# Altium integrated library Capacitor - Aluminium TH.IntLib: 4591 symbols (part 3 of 68)
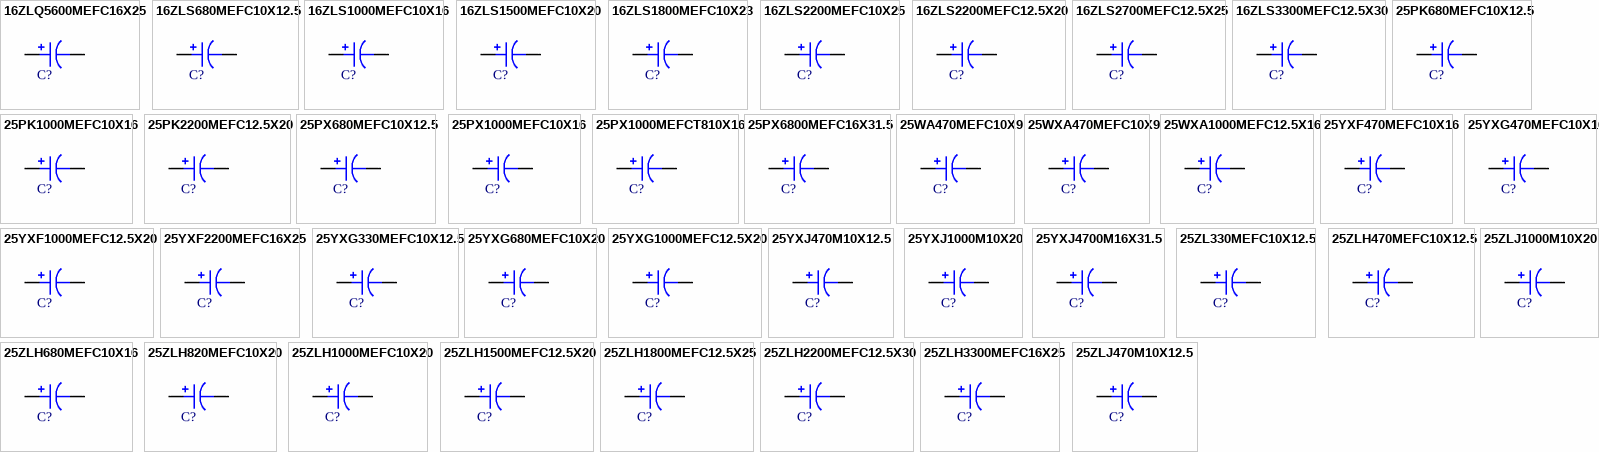
[diagram p116: symbols 16ZLQ5600MEFC16X25 to 25ZLJ1000M10X20]

## 25PX6800MEFC16X31.5
designator C?, comment 6800uF  (value not drawn)
CAP ALUM 6800UF 20% 25V RADIAL; Part Number: 25PX6800MEFC16X31.5; Manufacturer: Rubycon; TemperatureRange: -55C ~ 105C; Type: Polar; Ripple Current: 1.91A; Value: 6800uF; PartId: 27157; Supplier 1: Digi-Key; Supplier Part Number 1: 1189-1706-ND; ComponentLink1Description: Datasheet; ComponentLink1URL: http://www.rubycon.co.jp/en/catalog/e_pdfs/aluminum/e_px.pdf; ComponentLink2Description: Digi-Key Listing; ComponentLink2URL: https://www.digikey.com/product-detail/en/rubycon/25PX6800MEFC16X31.5/1189-1706-ND/3621620; Tolerance: 20%; Voltage: 25V; Price: 1.87; Device Package: Radial, Can, 16mm
footprint CAP AL TH D16 L7.5 H33.5
pins: 1, 2

## 25WA470MEFC10X9
designator C?, comment 470uF  (value not drawn)
CAP ALUM 470UF 20% 25V RADIAL; Part Number: 25WA470MEFC10X9; Manufacturer: Rubycon; TemperatureRange: -40C ~ 85C; Ripple Current: 460mA; Value: 470uF; PartId: 24478; Supplier 1: Digi-Key; Supplier Part Number 1: 1189-2231-ND; ComponentLink1Description: Datasheet; ComponentLink1URL: http://www.rubycon.co.jp/en/catalog/e_pdfs/aluminum/e_wa.pdf; ComponentLink2Description: Digi-Key Listing; ComponentLink2URL: https://www.digikey.com/product-detail/en/rubycon/25WA470MEFC10X9/1189-2231-ND/3563512; Tolerance: 20%; Voltage: 25V; Price: 0.66; Device Package: Radial, Can, 10mm
footprint CAP AL TH D10 L5 H12.5
pins: 1, 2

## 25WXA470MEFC10X9
designator C?, comment 470uF  (value not drawn)
CAP ALUM 470UF 20% 25V RADIAL; Part Number: 25WXA470MEFC10X9; Manufacturer: Rubycon; TemperatureRange: -55C ~ 105C; Type: Polar; Ripple Current: 370mA; Value: 470uF; PartId: 24467; Supplier 1: Digi-Key; Supplier Part Number 1: 1189-2233-ND; ComponentLink1Description: Datasheet; ComponentLink1URL: http://www.rubycon.co.jp/en/catalog/e_pdfs/aluminum/e_wxa.pdf; ComponentLink2Description: Digi-Key Listing; ComponentLink2URL: https://www.digikey.com/product-detail/en/rubycon/25WXA470MEFC10X9/1189-2233-ND/3563526; Tolerance: 20%; Voltage: 25V; Price: 0.55; Device Package: Radial, Can, 10mm
footprint CAP AL TH D10 L5 H12.5
pins: 1, 2

## 25WXA1000MEFC12.5X16
designator C?, comment 1000uF  (value not drawn)
CAP ALUM 1000UF 20% 25V RADIAL; Part Number: 25WXA1000MEFC12.5X16; Manufacturer: Rubycon; TemperatureRange: -55C ~ 105C; Type: Polar; Ripple Current: 670mA; Value: 1000uF; PartId: 22801; Supplier 1: Digi-Key; Supplier Part Number 1: 1189-2232-ND; ComponentLink1Description: Datasheet; ComponentLink1URL: http://www.rubycon.co.jp/en/catalog/e_pdfs/aluminum/e_wxa.pdf; ComponentLink2Description: Digi-Key Listing; ComponentLink2URL: https://www.digikey.com/product-detail/en/rubycon/25WXA1000MEFC12.5X16/1189-2232-ND/3563953; Tolerance: 20%; Voltage: 25V; Price: 0; Device Package: Radial, Can, 12.5mm
footprint CAP AL TH D12.5 L5 H17.5
pins: 1, 2

## 25YXF470MEFC10X16
designator C?, comment 470uF  (value not drawn)
CAP ALUM 470UF 20% 25V RADIAL; Part Number: 25YXF470MEFC10X16; Manufacturer: Rubycon; TemperatureRange: -40C ~ 105C; Type: Polar; Ripple Current: 562.5mA; Impedance: 120 mOhm; Value: 470uF; PartId: 25162; Supplier 1: Digi-Key; Supplier Part Number 1: 1189-1870-ND; ComponentLink1Description: Datasheet; ComponentLink1URL: http://www.rubycon.co.jp/en/catalog/e_pdfs/aluminum/e_yxf.pdf; ComponentLink2Description: Digi-Key Listing; ComponentLink2URL: https://www.digikey.com/product-detail/en/rubycon/25YXF470MEFC10X16/1189-1870-ND/3563688; Tolerance: 20%; Voltage: 25V; Price: 0.44; Device Package: Radial, Can, 10mm
footprint CAP AL TH D10 L5 H17.5
pins: 1, 2

## 25YXF1000MEFC12.5X20
designator C?, comment 1000uF  (value not drawn)
CAP ALUM 1000UF 20% 25V RADIAL; Part Number: 25YXF1000MEFC12.5X20; Manufacturer: Rubycon; TemperatureRange: -40C ~ 105C; Type: Polar; Ripple Current: 975mA; Impedance: 62 mOhm; Value: 1000uF; PartId: 23230; Supplier 1: Digi-Key; Supplier Part Number 1: 1189-1902-ND; ComponentLink1Description: Datasheet; ComponentLink1URL: http://www.rubycon.co.jp/en/catalog/e_pdfs/aluminum/e_yxf.pdf; ComponentLink2Description: Digi-Key Listing; ComponentLink2URL: https://www.digikey.com/product-detail/en/rubycon/25YXF1000MEFC12.5X20/1189-1902-ND/3564028; Tolerance: 20%; Voltage: 25V; Price: 0.67; Device Package: Radial, Can, 12.5mm
footprint CAP AL TH D12.5 L5 H22
pins: 1, 2

## 25YXF2200MEFC16X25
designator C?, comment 2200uF  (value not drawn)
CAP ALUM 2200UF 20% 25V RADIAL; Part Number: 25YXF2200MEFC16X25; Manufacturer: Rubycon; TemperatureRange: -40C ~ 105C; Type: Polar; Ripple Current: 1.5A; Impedance: 34 mOhm; Value: 2200uF; PartId: 26893; Supplier 1: Digi-Key; Supplier Part Number 1: 1189-2234-ND; ComponentLink1Description: Datasheet; ComponentLink1URL: http://www.rubycon.co.jp/en/catalog/e_pdfs/aluminum/e_yxf.pdf; ComponentLink2Description: Digi-Key Listing; ComponentLink2URL: https://www.digikey.com/product-detail/en/rubycon/25YXF2200MEFC16X25/1189-2234-ND/3564458; Tolerance: 20%; Voltage: 25V; Price: 1.41; Device Package: Radial, Can, 16mm
footprint CAP AL TH D16 L7.5 H27
pins: 1, 2

## 25YXG330MEFC10X12.5
designator C?, comment 330uF  (value not drawn)
CAP ALUM 330UF 20% 25V RADIAL; Part Number: 25YXG330MEFC10X12.5; Manufacturer: Rubycon; TemperatureRange: -40C ~ 105C; Type: Polar; Ripple Current: 475.8mA @ 120Hz; Impedance: 80 mOhm; Value: 330uF; PartId: 24951; Supplier 1: Digi-Key; Supplier Part Number 1: 1189-2235-ND; ComponentLink1Description: Datasheet; ComponentLink1URL: http://www.rubycon.co.jp/en/catalog/e_pdfs/aluminum/e_yxg.pdf; ComponentLink2Description: Digi-Key Listing; ComponentLink2URL: https://www.digikey.com/product-detail/en/rubycon/25YXG330MEFC10X12.5/1189-2235-ND/3563589; Tolerance: 20%; Voltage: 25V; Price: 0.52; Device Package: Radial, Can, 10mm
footprint CAP AL TH D10 L5 H14.5
pins: 1, 2

## 25YXG470MEFC10X16
designator C?, comment 470uF  (value not drawn)
CAP ALUM 470UF 20% 25V RADIAL; Part Number: 25YXG470MEFC10X16; Manufacturer: Rubycon; TemperatureRange: -40C ~ 105C; Type: Polar; Ripple Current: 665.5mA @ 120Hz; Impedance: 60 mOhm; Value: 470uF; PartId: 25219; Supplier 1: Digi-Key; Supplier Part Number 1: 1189-1735-ND; ComponentLink1Description: Datasheet; ComponentLink1URL: http://www.rubycon.co.jp/en/catalog/e_pdfs/aluminum/e_yxg.pdf; ComponentLink2Description: Digi-Key Listing; ComponentLink2URL: https://www.digikey.com/product-detail/en/rubycon/25YXG470MEFC10X16/1189-1735-ND/3563695; Tolerance: 20%; Voltage: 25V; Price: 0.53; Device Package: Radial, Can, 10mm
footprint CAP AL TH D10 L5 H17.5
pins: 1, 2

## 25YXG680MEFC10X20
designator C?, comment 680uF  (value not drawn)
CAP ALUM 680UF 20% 25V RADIAL; Part Number: 25YXG680MEFC10X20; Manufacturer: Rubycon; TemperatureRange: -40C ~ 105C; Type: Polar; Ripple Current: 770mA @ 120Hz; Impedance: 46 mOhm; Value: 680uF; PartId: 25580; Supplier 1: Digi-Key; Supplier Part Number 1: 1189-1738-ND; ComponentLink1Description: Datasheet; ComponentLink1URL: http://www.rubycon.co.jp/en/catalog/e_pdfs/aluminum/e_yxg.pdf; ComponentLink2Description: Digi-Key Listing; ComponentLink2URL: https://www.digikey.com/product-detail/en/rubycon/25YXG680MEFC10X20/1189-1738-ND/3563790; Tolerance: 20%; Voltage: 25V; Price: 0.66; Device Package: Radial, Can, 10mm
footprint CAP AL TH D10 L5 H22
pins: 1, 2

## 25YXG1000MEFC12.5X20
designator C?, comment 1000uF  (value not drawn)
CAP ALUM 1000UF 20% 25V RADIAL; Part Number: 25YXG1000MEFC12.5X20; Manufacturer: Rubycon; TemperatureRange: -40C ~ 105C; Type: Polar; Ripple Current: 1.14A @ 120Hz; Impedance: 35 mOhm; Value: 1000uF; PartId: 23379; Supplier 1: Digi-Key; Supplier Part Number 1: 1189-1231-ND; ComponentLink1Description: Datasheet; ComponentLink1URL: http://www.rubycon.co.jp/en/catalog/e_pdfs/aluminum/e_yxg.pdf; ComponentLink2Description: Digi-Key Listing; ComponentLink2URL: https://www.digikey.com/product-detail/en/rubycon/25YXG1000MEFC12.5X20/1189-1231-ND/3134187; Tolerance: 20%; Voltage: 25V; Price: 0.92; Device Package: Radial, Can, 12.5mm
footprint CAP AL TH D12.5 L5 H22
pins: 1, 2

## 25YXJ470M10X12.5
designator C?, comment 470uF  (value not drawn)
CAP ALUM 470UF 20% 25V RADIAL; Part Number: 25YXJ470M10X12.5; Manufacturer: Rubycon; TemperatureRange: -40C ~ 105C; Type: Polar; Ripple Current: 865mA; Impedance: 80 mOhm; Value: 470uF; PartId: 24831; Supplier 1: Digi-Key; Supplier Part Number 1: 1189-2238-ND; ComponentLink1Description: Datasheet; ComponentLink1URL: http://www.rubycon.co.jp/en/catalog/e_pdfs/aluminum/e_yxj.pdf; ComponentLink2Description: Digi-Key Listing; ComponentLink2URL: https://www.digikey.com/product-detail/en/rubycon/25YXJ470M10X12.5/1189-2238-ND/3563596; Tolerance: 20%; Voltage: 25V; Price: 0.46; Device Package: Radial, Can, 10mm
footprint CAP AL TH D10 L5 H14.5
pins: 1, 2

## 25YXJ1000M10X20
designator C?, comment 1000uF  (value not drawn)
CAP ALUM 1000UF 20% 25V RADIAL; Part Number: 25YXJ1000M10X20; Manufacturer: Rubycon; TemperatureRange: -40C ~ 105C; Type: Polar; Ripple Current: 1.4A; Impedance: 46 mOhm; Value: 1000uF; PartId: 25851; Supplier 1: Digi-Key; Supplier Part Number 1: 1189-1241-ND; ComponentLink1Description: Datasheet; ComponentLink1URL: http://www.rubycon.co.jp/en/catalog/e_pdfs/aluminum/e_yxj.pdf; ComponentLink2Description: Digi-Key Listing; ComponentLink2URL: https://www.digikey.com/product-detail/en/rubycon/25YXJ1000M10X20/1189-1241-ND/3134197; Tolerance: 20%; Voltage: 25V; Price: 0.55; Device Package: Radial, Can, 10mm
footprint CAP AL TH D10 L5 H22
pins: 1, 2

## 25YXJ4700M16X31.5
designator C?, comment 4700uF  (value not drawn)
CAP ALUM 4700UF 20% 25V RADIAL; Part Number: 25YXJ4700M16X31.5; Manufacturer: Rubycon; TemperatureRange: -40C ~ 105C; Type: Polar; Ripple Current: 3.45A; Impedance: 19 mOhm; Value: 4700uF; PartId: 27150; Supplier 1: Digi-Key; Supplier Part Number 1: 25YXJ4700M16X31.5-ND; ComponentLink1Description: Datasheet; ComponentLink1URL: http://www.rubycon.co.jp/en/catalog/e_pdfs/aluminum/e_yxj.pdf; ComponentLink2Description: Digi-Key Listing; ComponentLink2URL: https://www.digikey.com/product-detail/en/rubycon/25YXJ4700M16X31.5/25YXJ4700M16X31.5-ND/3564542; Tolerance: 20%; Voltage: 25V; Price: 1.84; Device Package: Radial, Can, 16mm
footprint CAP AL TH D16 L7.5 H33.5
pins: 1, 2

## 25ZL330MEFC10X12.5
designator C?, comment 330uF  (value not drawn)
CAP ALUM 330UF 20% 25V RADIAL; Part Number: 25ZL330MEFC10X12.5; Manufacturer: Rubycon; TemperatureRange: -40C ~ 105C; Type: Polar; Ripple Current: 567mA; Impedance: 53 mOhm; Value: 330uF; PartId: 24927; Supplier 1: Digi-Key; Supplier Part Number 1: 1189-1739-ND; ComponentLink1Description: Datasheet; ComponentLink1URL: http://www.rubycon.co.jp/en/catalog/e_pdfs/aluminum/e_zl.pdf; ComponentLink2Description: Digi-Key Listing; ComponentLink2URL: https://www.digikey.com/product-detail/en/rubycon/25ZL330MEFC10X12.5/1189-1739-ND/3563603; Tolerance: 20%; Voltage: 25V; Price: 0.5; Device Package: Radial, Can, 10mm
footprint CAP AL TH D10 L5 H14.5
pins: 1, 2

## 25ZLH470MEFC10X12.5
designator C?, comment 470uF  (value not drawn)
CAP ALUM 470UF 20% 25V RADIAL; Part Number: 25ZLH470MEFC10X12.5; Manufacturer: Rubycon; TemperatureRange: -40C ~ 105C; Type: Polar; Ripple Current: 731.5mA; Impedance: 39 mOhm; Value: 470uF; PartId: 24756; Supplier 1: Digi-Key; Supplier Part Number 1: 1189-1869-ND; ComponentLink1Description: Datasheet; ComponentLink1URL: http://www.rubycon.co.jp/en/catalog/e_pdfs/aluminum/e_zlh.pdf; ComponentLink2Description: Digi-Key Listing; ComponentLink2URL: https://www.digikey.com/product-detail/en/rubycon/25ZLH470MEFC10X12.5/1189-1869-ND/3563614; Tolerance: 20%; Voltage: 25V; Price: 0.43; Device Package: Radial, Can, 10mm
footprint CAP AL TH D10 L5 H14.5
pins: 1, 2

## 25ZLH680MEFC10X16
designator C?, comment 680uF  (value not drawn)
CAP ALUM 680UF 20% 25V RADIAL; Part Number: 25ZLH680MEFC10X16; Manufacturer: Rubycon; TemperatureRange: -40C ~ 105C; Type: Polar; Ripple Current: 968mA; Impedance: 28 mOhm; Value: 680uF; PartId: 25227; Supplier 1: Digi-Key; Supplier Part Number 1: 1189-1855-ND; ComponentLink1Description: Datasheet; ComponentLink1URL: http://www.rubycon.co.jp/en/catalog/e_pdfs/aluminum/e_zlh.pdf; ComponentLink2Description: Digi-Key Listing; ComponentLink2URL: https://www.digikey.com/product-detail/en/rubycon/25ZLH680MEFC10X16/1189-1855-ND/3563722; Tolerance: 20%; Voltage: 25V; Price: 0.55; Device Package: Radial, Can, 10mm
footprint CAP AL TH D10 L5 H17.5
pins: 1, 2

## 25ZLH820MEFC10X20
designator C?, comment 820uF  (value not drawn)
CAP ALUM 820UF 20% 25V RADIAL; Part Number: 25ZLH820MEFC10X20; Manufacturer: Rubycon; TemperatureRange: -40C ~ 105C; Type: Polar; Ripple Current: 1.176A; Impedance: 20 mOhm; Value: 820uF; PartId: 25878; Supplier 1: Digi-Key; Supplier Part Number 1: 1189-2915-ND; ComponentLink1Description: Datasheet; ComponentLink1URL: http://www.rubycon.co.jp/en/catalog/e_pdfs/aluminum/e_zlh.pdf; ComponentLink2Description: Digi-Key Listing; ComponentLink2URL: https://www.digikey.com/product-detail/en/rubycon/25ZLH820MEFC10X20/1189-2915-ND/3563817; Tolerance: 20%; Voltage: 25V; Price: 0.64; Device Package: Radial, Can, 10mm
footprint CAP AL TH D10 L5 H22
pins: 1, 2

## 25ZLH1000MEFC10X20
designator C?, comment 1000uF  (value not drawn)
CAP ALUM 1000UF 20% 25V RADIAL; Part Number: 25ZLH1000MEFC10X20; Manufacturer: Rubycon; TemperatureRange: -40C ~ 105C; Type: Polar; Value: 1000uF; PartId: 25890; Supplier 1: Digi-Key; Supplier Part Number 1: 1189-1242-ND; ComponentLink1Description: Datasheet; ComponentLink1URL: http://www.rubycon.co.jp/en/catalog/e_pdfs/aluminum/e_zlh.pdf; ComponentLink2Description: Digi-Key Listing; ComponentLink2URL: https://www.digikey.com/product-detail/en/rubycon/25ZLH1000MEFC10X20/1189-1242-ND/3134198; Tolerance: 20%; Voltage: 25V; Price: 0.65; Device Package: Radial, Can, 10mm
footprint CAP AL TH D10 L5 H22
pins: 1, 2

## 25ZLH1500MEFC12.5X20
designator C?, comment 1500uF  (value not drawn)
CAP ALUM 1500UF 20% 25V RADIAL; Part Number: 25ZLH1500MEFC12.5X20; Manufacturer: Rubycon; TemperatureRange: -40C ~ 105C; Type: Polar; Ripple Current: 1.488A; Impedance: 17 mOhm; Value: 1500uF; PartId: 23438; Supplier 1: Digi-Key; Supplier Part Number 1: 1189-2241-ND; ComponentLink1Description: Datasheet; ComponentLink1URL: http://www.rubycon.co.jp/en/catalog/e_pdfs/aluminum/e_zlh.pdf; ComponentLink2Description: Digi-Key Listing; ComponentLink2URL: https://www.digikey.com/product-detail/en/rubycon/25ZLH1500MEFC12.5X20/1189-2241-ND/3564066; Tolerance: 20%; Voltage: 25V; Price: 1.03; Device Package: Radial, Can, 12.5mm
footprint CAP AL TH D12.5 L5 H22
pins: 1, 2

## 25ZLH1800MEFC12.5X25
designator C?, comment 1800uF  (value not drawn)
CAP ALUM 1800UF 20% 25V RADIAL; Part Number: 25ZLH1800MEFC12.5X25; Manufacturer: Rubycon; TemperatureRange: -40C ~ 105C; Type: Polar; Ripple Current: 1.74A; Impedance: 15 mOhm; Value: 1800uF; PartId: 24003; Supplier 1: Digi-Key; Supplier Part Number 1: 1189-2961-ND; ComponentLink1Description: Datasheet; ComponentLink1URL: http://www.rubycon.co.jp/en/catalog/e_pdfs/aluminum/e_zlh.pdf; ComponentLink2Description: Digi-Key Listing; ComponentLink2URL: https://www.digikey.com/product-detail/en/rubycon/25ZLH1800MEFC12.5X25/1189-2961-ND/3564151; Tolerance: 20%; Voltage: 25V; Price: 1.05; Device Package: Radial, Can, 12.5mm
footprint CAP AL TH D12.5 L5 H27
pins: 1, 2

## 25ZLH2200MEFC12.5X30
designator C?, comment 2200uF  (value not drawn)
CAP ALUM 2200UF 20% 25V RADIAL; Part Number: 25ZLH2200MEFC12.5X30; Manufacturer: Rubycon; TemperatureRange: -40C ~ 105C; Type: Polar; Ripple Current: 2.415A; Impedance: 13 mOhm; Value: 2200uF; PartId: 24226; Supplier 1: Digi-Key; Supplier Part Number 1: 1189-1741-ND; ComponentLink1Description: Datasheet; ComponentLink1URL: http://www.rubycon.co.jp/en/catalog/e_pdfs/aluminum/e_zlh.pdf; ComponentLink2Description: Digi-Key Listing; ComponentLink2URL: https://www.digikey.com/product-detail/en/rubycon/25ZLH2200MEFC12.5X30/1189-1741-ND/3564206; Tolerance: 20%; Voltage: 25V; Price: 0.97; Device Package: Radial, Can, 12.5mm
footprint CAP AL TH D12.5 L5 H35.5
pins: 1, 2

## 25ZLH3300MEFC16X25
designator C?, comment 3300uF  (value not drawn)
CAP ALUM 3300UF 20% 25V RADIAL; Part Number: 25ZLH3300MEFC16X25; Manufacturer: Rubycon; TemperatureRange: -40C ~ 105C; Type: Polar; Ripple Current: 2.541A; Impedance: 13 mOhm; Value: 3300uF; PartId: 26914; Supplier 1: Digi-Key; Supplier Part Number 1: 1189-2964-ND; ComponentLink1Description: Datasheet; ComponentLink1URL: http://www.rubycon.co.jp/en/catalog/e_pdfs/aluminum/e_zlh.pdf; ComponentLink2Description: Digi-Key Listing; ComponentLink2URL: https://www.digikey.com/product-detail/en/rubycon/25ZLH3300MEFC16X25/1189-2964-ND/3564492; Tolerance: 20%; Voltage: 25V; Price: 1.64; Device Package: Radial, Can, 16mm
footprint CAP AL TH D16 L7.5 H27
pins: 1, 2

## 25ZLJ470M10X12.5
designator C?, comment 470uF  (value not drawn)
CAP ALUM 470UF 20% 25V RADIAL; Part Number: 25ZLJ470M10X12.5; Manufacturer: Rubycon; TemperatureRange: -40C ~ 105C; Type: Polar; Ripple Current: 935mA @ 120Hz; Impedance: 53 mOhm; Value: 470uF; PartId: 24961; Supplier 1: Digi-Key; Supplier Part Number 1: 1189-1253-ND; ComponentLink1Description: Datasheet; ComponentLink1URL: http://www.rubycon.co.jp/en/catalog/e_pdfs/aluminum/e_zlj.pdf; ComponentLink2Description: Digi-Key Listing; ComponentLink2URL: https://www.digikey.com/product-detail/en/rubycon/25ZLJ470M10X12.5/1189-1253-ND/3134209; Tolerance: 20%; Voltage: 25V; Price: 0.53; Device Package: Radial, Can, 10mm
footprint CAP AL TH D10 L5 H14.5
pins: 1, 2

## 25ZLJ1000M10X20
designator C?, comment 1000uF  (value not drawn)
CAP ALUM 1000UF 20% 25V RADIAL; Part Number: 25ZLJ1000M10X20; Manufacturer: Rubycon; TemperatureRange: -40C ~ 105C; Type: Polar; Ripple Current: 1.5A @ 120Hz; Impedance: 28 mOhm; Value: 1000uF; PartId: 25917; Supplier 1: Digi-Key; Supplier Part Number 1: 1189-1245-ND; ComponentLink1Description: Datasheet; ComponentLink1URL: http://www.rubycon.co.jp/en/catalog/e_pdfs/aluminum/e_zlj.pdf; ComponentLink2Description: Digi-Key Listing; ComponentLink2URL: https://www.digikey.com/product-detail/en/rubycon/25ZLJ1000M10X20/1189-1245-ND/3134201; Tolerance: 20%; Voltage: 25V; Price: 0.71; Device Package: Radial, Can, 10mm
footprint CAP AL TH D10 L5 H22
pins: 1, 2

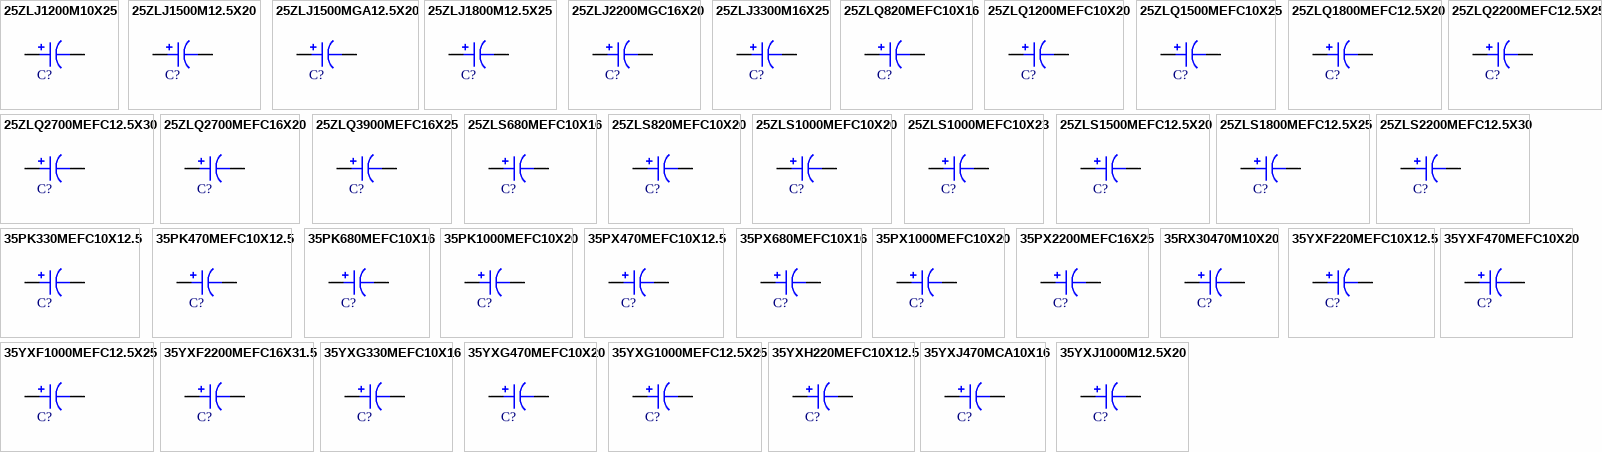
[diagram p4: symbols 25ZLJ1200M10X25 to 35YXJ1000M12.5X20]

## 25ZLJ1200M10X25
designator C?, comment 1200uF  (value not drawn)
CAP ALUM 1200UF 20% 25V RADIAL; Part Number: 25ZLJ1200M10X25; Manufacturer: Rubycon; TemperatureRange: -40C ~ 105C; Type: Polar; Ripple Current: 1.74A @ 120Hz; Impedance: 24 mOhm; Value: 1200uF; PartId: 26165; Supplier 1: Digi-Key; Supplier Part Number 1: 1189-1246-ND; ComponentLink1Description: Datasheet; ComponentLink1URL: http://www.rubycon.co.jp/en/catalog/e_pdfs/aluminum/e_zlj.pdf; ComponentLink2Description: Digi-Key Listing; ComponentLink2URL: https://www.digikey.com/product-detail/en/rubycon/25ZLJ1200M10X25/1189-1246-ND/3134202; Tolerance: 20%; Voltage: 25V; Price: 0.87; Device Package: Radial, Can, 10mm
footprint CAP AL TH D10 L5 H30
pins: 1, 2

## 25ZLJ1500M12.5X20
designator C?, comment 1500uF  (value not drawn)
CAP ALUM 1500UF 20% 25V RADIAL; Part Number: 25ZLJ1500M12.5X20; Manufacturer: Rubycon; TemperatureRange: -40C ~ 105C; Type: Polar; Ripple Current: 1.56A @ 120Hz; Impedance: 25 mOhm; Value: 1500uF; PartId: 23471; Supplier 1: Digi-Key; Supplier Part Number 1: 1189-2916-ND; ComponentLink1Description: Datasheet; ComponentLink1URL: http://www.rubycon.co.jp/en/catalog/e_pdfs/aluminum/e_zlj.pdf; ComponentLink2Description: Digi-Key Listing; ComponentLink2URL: https://www.digikey.com/product-detail/en/rubycon/25ZLJ1500M12.5X20/1189-2916-ND/3564073; Tolerance: 20%; Voltage: 25V; Price: 1.09; Device Package: Radial, Can, 12.5mm
footprint CAP AL TH D12.5 L5 H22
pins: 1, 2

## 25ZLJ1500MGA12.5X20
designator C?, comment 1500uF  (value not drawn)
CAP ALUM 1500UF 20% 25V RADIAL; Part Number: 25ZLJ1500MGA12.5X20; Manufacturer: Rubycon; TemperatureRange: -40C ~ 105C; Type: Polar; Ripple Current: 1.56A @ 120Hz; Impedance: 25 mOhm; Value: 1500uF; PartId: 23203; Supplier 1: Digi-Key; Supplier Part Number 1: 1189-1592-3-ND; ComponentLink1Description: Datasheet; ComponentLink1URL: http://www.rubycon.co.jp/en/catalog/e_pdfs/aluminum/e_zlj.pdf; ComponentLink2Description: Digi-Key Listing; ComponentLink2URL: https://www.digikey.com/product-detail/en/rubycon/25ZLJ1500MGA12.5X20/1189-1592-3-ND/3134872; Tolerance: 20%; Voltage: 25V; Price: 0.4666; Device Package: Radial, Can, 12.5mm
footprint CAP AL TH D12.5 L5 H22
pins: 1, 2

## 25ZLJ1800M12.5X25
designator C?, comment 1800uF  (value not drawn)
CAP ALUM 1800UF 20% 25V RADIAL; Part Number: 25ZLJ1800M12.5X25; Manufacturer: Rubycon; TemperatureRange: -40C ~ 105C; Type: Polar; Ripple Current: 1.92A @ 120Hz; Impedance: 19 mOhm; Value: 1800uF; PartId: 24107; Supplier 1: Digi-Key; Supplier Part Number 1: 1189-1248-ND; ComponentLink1Description: Datasheet; ComponentLink1URL: http://www.rubycon.co.jp/en/catalog/e_pdfs/aluminum/e_zlj.pdf; ComponentLink2Description: Digi-Key Listing; ComponentLink2URL: https://www.digikey.com/product-detail/en/rubycon/25ZLJ1800M12.5X25/1189-1248-ND/3134204; Tolerance: 20%; Voltage: 25V; Price: 1.35; Device Package: Radial, Can, 12.5mm
footprint CAP AL TH D12.5 L5 H27
pins: 1, 2

## 25ZLJ2200MGC16X20
designator C?, comment 2200uF  (value not drawn)
CAP ALUM 2200UF 20% 25V RADIAL; Part Number: 25ZLJ2200MGC16X20; Manufacturer: Rubycon; TemperatureRange: -40C ~ 105C; Type: Polar; Ripple Current: 2.331A @ 120Hz; Impedance: 21 mOhm; Value: 2200uF; PartId: 26391; Supplier 1: Digi-Key; Supplier Part Number 1: 1189-1593-2-ND; ComponentLink1Description: Datasheet; ComponentLink1URL: http://www.rubycon.co.jp/en/catalog/e_pdfs/aluminum/e_zlj.pdf; ComponentLink2Description: Digi-Key Listing; ComponentLink2URL: https://www.digikey.com/product-detail/en/rubycon/25ZLJ2200MGC16X20/1189-1593-2-ND/3134873; Tolerance: 20%; Voltage: 25V; Price: 0.8384; Device Package: Radial, Can, 16mm
footprint CAP AL TH D16 L7.5 H22
pins: 1, 2

## 25ZLJ3300M16X25
designator C?, comment 3300uF  (value not drawn)
CAP ALUM 3300UF 20% 25V RADIAL; Part Number: 25ZLJ3300M16X25; Manufacturer: Rubycon; TemperatureRange: -40C ~ 105C; Type: Polar; Ripple Current: 2.667A @ 120Hz; Impedance: 17 mOhm; Value: 3300uF; PartId: 26926; Supplier 1: Digi-Key; Supplier Part Number 1: 1189-1250-ND; ComponentLink1Description: Datasheet; ComponentLink1URL: http://www.rubycon.co.jp/en/catalog/e_pdfs/aluminum/e_zlj.pdf; ComponentLink2Description: Digi-Key Listing; ComponentLink2URL: https://www.digikey.com/product-detail/en/rubycon/25ZLJ3300M16X25/1189-1250-ND/3134206; Tolerance: 20%; Voltage: 25V; Price: 1.76; Device Package: Radial, Can, 16mm
footprint CAP AL TH D16 L7.5 H27
pins: 1, 2

## 25ZLQ820MEFC10X16
designator C?, comment 820uF  (value not drawn)
CAP ALUM 820UF 20% 25V T/H; Part Number: 25ZLQ820MEFC10X16; Manufacturer: Rubycon; TemperatureRange: -40C ~ 105C; Type: Polar; Ripple Current: 1.158A @ 120Hz; Impedance: 25 mOhm; Value: 820uF; PartId: 25448; Supplier 1: Digi-Key; Supplier Part Number 1: 1189-3647-ND; ComponentLink1Description: Datasheet; ComponentLink1URL: http://www.rubycon.co.jp/en/catalog/e_pdfs/aluminum/e_ZLQ.pdf; ComponentLink2Description: Digi-Key Listing; ComponentLink2URL: https://www.digikey.com/product-detail/en/rubycon/25ZLQ820MEFC10X16/1189-3647-ND/6049874; Tolerance: 20%; Voltage: 25V; Price: 0.69; Device Package: Radial, Can, 10mm
footprint CAP AL TH D10 L5 H17.5
pins: 1, 2

## 25ZLQ1200MEFC10X20
designator C?, comment 1200uF  (value not drawn)
CAP ALUM 1200UF 20% 25V T/H; Part Number: 25ZLQ1200MEFC10X20; Manufacturer: Rubycon; TemperatureRange: -40C ~ 105C; Type: Polar; Ripple Current: 1.278A @ 120Hz; Impedance: 18 mOhm; Value: 1200uF; PartId: 25920; Supplier 1: Digi-Key; Supplier Part Number 1: 1189-3648-ND; ComponentLink1Description: Datasheet; ComponentLink1URL: http://www.rubycon.co.jp/en/catalog/e_pdfs/aluminum/e_ZLQ.pdf; ComponentLink2Description: Digi-Key Listing; ComponentLink2URL: https://www.digikey.com/product-detail/en/rubycon/25ZLQ1200MEFC10X20/1189-3648-ND/6049875; Tolerance: 20%; Voltage: 25V; Price: 0.71; Device Package: Radial, Can, 10mm
footprint CAP AL TH D10 L5 H22
pins: 1, 2

## 25ZLQ1500MEFC10X25
designator C?, comment 1500uF  (value not drawn)
CAP ALUM 1500UF 20% 25V T/H; Part Number: 25ZLQ1500MEFC10X25; Manufacturer: Rubycon; TemperatureRange: -40C ~ 105C; Type: Polar; Ripple Current: 1.5A @ 120Hz; Impedance: 15 mOhm; Value: 1500uF; PartId: 26130; Supplier 1: Digi-Key; Supplier Part Number 1: 1189-3649-ND; ComponentLink1Description: Datasheet; ComponentLink1URL: http://www.rubycon.co.jp/en/catalog/e_pdfs/aluminum/e_ZLQ.pdf; ComponentLink2Description: Digi-Key Listing; ComponentLink2URL: https://www.digikey.com/product-detail/en/rubycon/25ZLQ1500MEFC10X25/1189-3649-ND/6050008; Tolerance: 20%; Voltage: 25V; Price: 0.8; Device Package: Radial, Can, 10mm
footprint CAP AL TH D10 L5 H30
pins: 1, 2

## 25ZLQ1800MEFC12.5X20
designator C?, comment 1800uF  (value not drawn)
CAP ALUM 1800UF 20% 25V T/H; Part Number: 25ZLQ1800MEFC12.5X20; Manufacturer: Rubycon; TemperatureRange: -40C ~ 105C; Type: Polar; Ripple Current: 1.614A @ 120Hz; Impedance: 16 mOhm; Value: 1800uF; PartId: 23439; Supplier 1: Digi-Key; Supplier Part Number 1: 1189-3650-ND; ComponentLink1Description: Datasheet; ComponentLink1URL: http://www.rubycon.co.jp/en/catalog/e_pdfs/aluminum/e_ZLQ.pdf; ComponentLink2Description: Digi-Key Listing; ComponentLink2URL: https://www.digikey.com/product-detail/en/rubycon/25ZLQ1800MEFC12.5X20/1189-3650-ND/6050009; Tolerance: 20%; Voltage: 25V; Price: 1.03; Device Package: Radial, Can, 12.5mm
footprint CAP AL TH D12.5 L5 H22
pins: 1, 2

## 25ZLQ2200MEFC12.5X25
designator C?, comment 2200uF  (value not drawn)
CAP ALUM 2200UF 20% 25V T/H; Part Number: 25ZLQ2200MEFC12.5X25; Manufacturer: Rubycon; TemperatureRange: -40C ~ 105C; Type: Polar; Ripple Current: 2.198A @ 120Hz; Impedance: 13 mOhm; Value: 2200uF; PartId: 24004; Supplier 1: Digi-Key; Supplier Part Number 1: 1189-3651-ND; ComponentLink1Description: Datasheet; ComponentLink1URL: http://www.rubycon.co.jp/en/catalog/e_pdfs/aluminum/e_ZLQ.pdf; ComponentLink2Description: Digi-Key Listing; ComponentLink2URL: https://www.digikey.com/product-detail/en/rubycon/25ZLQ2200MEFC12.5X25/1189-3651-ND/6050010; Tolerance: 20%; Voltage: 25V; Price: 1.05; Device Package: Radial, Can, 12.5mm
footprint CAP AL TH D12.5 L5 H27
pins: 1, 2

## 25ZLQ2700MEFC12.5X30
designator C?, comment 2700uF  (value not drawn)
CAP ALUM 2700UF 20% 25V T/H; Part Number: 25ZLQ2700MEFC12.5X30; Manufacturer: Rubycon; TemperatureRange: -40C ~ 105C; Type: Polar; Ripple Current: 2.576A @ 120Hz; Impedance: 12 mOhm; Value: 2700uF; PartId: 24324; Supplier 1: Digi-Key; Supplier Part Number 1: 1189-3652-ND; ComponentLink1Description: Datasheet; ComponentLink1URL: http://www.rubycon.co.jp/en/catalog/e_pdfs/aluminum/e_ZLQ.pdf; ComponentLink2Description: Digi-Key Listing; ComponentLink2URL: https://www.digikey.com/product-detail/en/rubycon/25ZLQ2700MEFC12.5X30/1189-3652-ND/6050011; Tolerance: 20%; Voltage: 25V; Price: 1.27; Device Package: Radial, Can, 12.5mm
footprint CAP AL TH D12.5 L5 H35.5
pins: 1, 2

## 25ZLQ2700MEFC16X20
designator C?, comment 2700uF  (value not drawn)
CAP ALUM 2700UF 20% 25V T/H; Part Number: 25ZLQ2700MEFC16X20; Manufacturer: Rubycon; TemperatureRange: -40C ~ 105C; Type: Polar; Ripple Current: 2.45A @ 120Hz; Impedance: 14 mOhm; Value: 2700uF; PartId: 26442; Supplier 1: Digi-Key; Supplier Part Number 1: 1189-3653-ND; ComponentLink1Description: Datasheet; ComponentLink1URL: http://www.rubycon.co.jp/en/catalog/e_pdfs/aluminum/e_ZLQ.pdf; ComponentLink2Description: Digi-Key Listing; ComponentLink2URL: https://www.digikey.com/product-detail/en/rubycon/25ZLQ2700MEFC16X20/1189-3653-ND/6050189; Tolerance: 20%; Voltage: 25V; Price: 1.39; Device Package: Radial, Can, 16mm
footprint CAP AL TH D16 L7.5 H22
pins: 1, 2

## 25ZLQ3900MEFC16X25
designator C?, comment 3900uF  (value not drawn)
CAP ALUM 3900UF 20% 25V T/H; Part Number: 25ZLQ3900MEFC16X25; Manufacturer: Rubycon; TemperatureRange: -40C ~ 105C; Type: Polar; Ripple Current: 2.716A @ 120Hz; Impedance: 11 mOhm; Value: 3900uF; PartId: 26917; Supplier 1: Digi-Key; Supplier Part Number 1: 1189-3655-ND; ComponentLink1Description: Datasheet; ComponentLink1URL: http://www.rubycon.co.jp/en/catalog/e_pdfs/aluminum/e_ZLQ.pdf; ComponentLink2Description: Digi-Key Listing; ComponentLink2URL: https://www.digikey.com/product-detail/en/rubycon/25ZLQ3900MEFC16X25/1189-3655-ND/6050190; Tolerance: 20%; Voltage: 25V; Price: 1.66; Device Package: Radial, Can, 16mm
footprint CAP AL TH D16 L7.5 H27
pins: 1, 2

## 25ZLS680MEFC10X16
designator C?, comment 680uF  (value not drawn)
CAP ALUM 680UF 20% 25V RADIAL; Part Number: 25ZLS680MEFC10X16; Manufacturer: Rubycon; TemperatureRange: -40C ~ 105C; Type: Polar; Ripple Current: 907.5mA; Impedance: 32 mOhm; Value: 680uF; PartId: 25315; Supplier 1: Digi-Key; Supplier Part Number 1: 1189-2586-ND; ComponentLink1Description: Datasheet; ComponentLink1URL: http://www.rubycon.co.jp/en/catalog/e_pdfs/aluminum/e_zls.pdf; ComponentLink2Description: Digi-Key Listing; ComponentLink2URL: https://www.digikey.com/product-detail/en/rubycon/25ZLS680MEFC10X16/1189-2586-ND/4977133; Tolerance: 20%; Voltage: 25V; Price: 0.65; Device Package: Radial, Can, 10mm
footprint CAP AL TH D10 L5 H17.5
pins: 1, 2

## 25ZLS820MEFC10X20
designator C?, comment 820uF  (value not drawn)
CAP ALUM 820UF 20% 25V RADIAL; Part Number: 25ZLS820MEFC10X20; Manufacturer: Rubycon; TemperatureRange: -40C ~ 105C; Type: Polar; Ripple Current: 1.176A; Impedance: 20 mOhm; Value: 820uF; PartId: 25939; Supplier 1: Digi-Key; Supplier Part Number 1: 1189-2587-ND; ComponentLink1Description: Datasheet; ComponentLink1URL: http://www.rubycon.co.jp/en/catalog/e_pdfs/aluminum/e_zls.pdf; ComponentLink2Description: Digi-Key Listing; ComponentLink2URL: https://www.digikey.com/product-detail/en/rubycon/25ZLS820MEFC10X20/1189-2587-ND/4977134; Tolerance: 20%; Voltage: 25V; Price: 0.74; Device Package: Radial, Can, 10mm
footprint CAP AL TH D10 L5 H22
pins: 1, 2

## 25ZLS1000MEFC10X20
designator C?, comment 1000uF  (value not drawn)
CAP ALUM 1000UF 20% 25V RADIAL; Part Number: 25ZLS1000MEFC10X20; Manufacturer: Rubycon; TemperatureRange: -40C ~ 105C; Type: Polar; Ripple Current: 1.176A; Impedance: 20 mOhm; Value: 1000uF; PartId: 25877; Supplier 1: Digi-Key; Supplier Part Number 1: 1189-2588-ND; ComponentLink1Description: Datasheet; ComponentLink1URL: http://www.rubycon.co.jp/en/catalog/e_pdfs/aluminum/e_zls.pdf; ComponentLink2Description: Digi-Key Listing; ComponentLink2URL: https://www.digikey.com/product-detail/en/rubycon/25ZLS1000MEFC10X20/1189-2588-ND/4977135; Tolerance: 20%; Voltage: 25V; Price: 0.64; Device Package: Radial, Can, 10mm
footprint CAP AL TH D10 L5 H22
pins: 1, 2

## 25ZLS1000MEFC10X23
designator C?, comment 1000uF  (value not drawn)
CAP ALUM 1000UF 20% 25V RADIAL; Part Number: 25ZLS1000MEFC10X23; Manufacturer: Rubycon; TemperatureRange: -40C ~ 105C; Type: Polar; Ripple Current: 1.35A; Impedance: 18 mOhm; Value: 1000uF; PartId: 26106; Supplier 1: Digi-Key; Supplier Part Number 1: 1189-2589-ND; ComponentLink1Description: Datasheet; ComponentLink1URL: http://www.rubycon.co.jp/en/catalog/e_pdfs/aluminum/e_zls.pdf; ComponentLink2Description: Digi-Key Listing; ComponentLink2URL: https://www.digikey.com/product-detail/en/rubycon/25ZLS1000MEFC10X23/1189-2589-ND/4977136; Tolerance: 20%; Voltage: 25V; Price: 0.76; Device Package: Radial, Can, 10mm
footprint CAP AL TH D10 L5 H30
pins: 1, 2

## 25ZLS1500MEFC12.5X20
designator C?, comment 1500uF  (value not drawn)
CAP ALUM 1500UF 20% 25V RADIAL; Part Number: 25ZLS1500MEFC12.5X20; Manufacturer: Rubycon; TemperatureRange: -40C ~ 105C; Type: Polar; Ripple Current: 1.488A; Impedance: 17 mOhm; Value: 1500uF; PartId: 23388; Supplier 1: Digi-Key; Supplier Part Number 1: 1189-2590-ND; ComponentLink1Description: Datasheet; ComponentLink1URL: http://www.rubycon.co.jp/en/catalog/e_pdfs/aluminum/e_zls.pdf; ComponentLink2Description: Digi-Key Listing; ComponentLink2URL: https://www.digikey.com/product-detail/en/rubycon/25ZLS1500MEFC12.5X20/1189-2590-ND/4977137; Tolerance: 20%; Voltage: 25V; Price: 0.94; Device Package: Radial, Can, 12.5mm
footprint CAP AL TH D12.5 L5 H22
pins: 1, 2

## 25ZLS1800MEFC12.5X25
designator C?, comment 1800uF  (value not drawn)
CAP ALUM 1800UF 20% 25V RADIAL; Part Number: 25ZLS1800MEFC12.5X25; Manufacturer: Rubycon; TemperatureRange: -40C ~ 105C; Type: Polar; Ripple Current: 1.74A; Impedance: 15 mOhm; Value: 1800uF; PartId: 23938; Supplier 1: Digi-Key; Supplier Part Number 1: 1189-2591-ND; ComponentLink1Description: Datasheet; ComponentLink1URL: http://www.rubycon.co.jp/en/catalog/e_pdfs/aluminum/e_zls.pdf; ComponentLink2Description: Digi-Key Listing; ComponentLink2URL: https://www.digikey.com/product-detail/en/rubycon/25ZLS1800MEFC12.5X25/1189-2591-ND/4977138; Tolerance: 20%; Voltage: 25V; Price: 0.97; Device Package: Radial, Can, 12.5mm
footprint CAP AL TH D12.5 L5 H27
pins: 1, 2

## 25ZLS2200MEFC12.5X30
designator C?, comment 2200uF  (value not drawn)
CAP ALUM 2200UF 20% 25V RADIAL; Part Number: 25ZLS2200MEFC12.5X30; Manufacturer: Rubycon; TemperatureRange: -40C ~ 105C; Type: Polar; Ripple Current: 2.415A; Impedance: 13 mOhm; Value: 2200uF; PartId: 24301; Supplier 1: Digi-Key; Supplier Part Number 1: 1189-2592-ND; ComponentLink1Description: Datasheet; ComponentLink1URL: http://www.rubycon.co.jp/en/catalog/e_pdfs/aluminum/e_zls.pdf; ComponentLink2Description: Digi-Key Listing; ComponentLink2URL: https://www.digikey.com/product-detail/en/rubycon/25ZLS2200MEFC12.5X30/1189-2592-ND/4977151; Tolerance: 20%; Voltage: 25V; Price: 1.2; Device Package: Radial, Can, 12.5mm
footprint CAP AL TH D12.5 L5 H35.5
pins: 1, 2

## 35PK330MEFC10X12.5
designator C?, comment 330uF  (value not drawn)
CAP ALUM 330UF 20% 35V RADIAL; Part Number: 35PK330MEFC10X12.5; Manufacturer: Rubycon; TemperatureRange: -40C ~ 85C; Ripple Current: 500mA; Value: 330uF; PartId: 24952; Supplier 1: Digi-Key; Supplier Part Number 1: 1189-1707-ND; ComponentLink1Description: Datasheet; ComponentLink1URL: http://www.rubycon.co.jp/en/catalog/e_pdfs/aluminum/e_pk.pdf; ComponentLink2Description: Digi-Key Listing; ComponentLink2URL: https://www.digikey.com/product-detail/en/rubycon/35PK330MEFC10X12.5/1189-1707-ND/3621621; Tolerance: 20%; Voltage: 35V; Price: 0.52; Device Package: Radial, Can, 10mm
footprint CAP AL TH D10 L5 H14.5
pins: 1, 2

## 35PK470MEFC10X12.5
designator C?, comment 470uF  (value not drawn)
CAP ALUM 470UF 20% 35V RADIAL; Part Number: 35PK470MEFC10X12.5; Manufacturer: Rubycon; TemperatureRange: -40C ~ 85C; Ripple Current: 680mA; Value: 470uF; PartId: 24723; Supplier 1: Digi-Key; Supplier Part Number 1: 1189-1743-ND; ComponentLink1Description: Datasheet; ComponentLink1URL: http://www.rubycon.co.jp/en/catalog/e_pdfs/aluminum/e_pk.pdf; ComponentLink2Description: Digi-Key Listing; ComponentLink2URL: https://www.digikey.com/product-detail/en/rubycon/35PK470MEFC10X12.5/1189-1743-ND/3563552; Tolerance: 20%; Voltage: 35V; Price: 0.41; Device Package: Radial, Can, 10mm
footprint CAP AL TH D10 L5 H14.5
pins: 1, 2

## 35PK680MEFC10X16
designator C?, comment 680uF  (value not drawn)
CAP ALUM 680UF 20% 35V RADIAL; Part Number: 35PK680MEFC10X16; Manufacturer: Rubycon; TemperatureRange: -40C ~ 85C; Ripple Current: 910mA; Value: 680uF; PartId: 25590; Supplier 1: Digi-Key; Supplier Part Number 1: 1189-1744-ND; ComponentLink1Description: Datasheet; ComponentLink1URL: http://www.rubycon.co.jp/en/catalog/e_pdfs/aluminum/e_pk.pdf; ComponentLink2Description: Digi-Key Listing; ComponentLink2URL: https://www.digikey.com/product-detail/en/rubycon/35PK680MEFC10X16/1189-1744-ND/3563666; Tolerance: 20%; Voltage: 35V; Price: 0.68; Device Package: Radial, Can, 10mm
footprint CAP AL TH D10 L5 H22
pins: 1, 2

## 35PK1000MEFC10X20
designator C?, comment 1000uF  (value not drawn)
CAP ALUM 1000UF 20% 35V RADIAL; Part Number: 35PK1000MEFC10X20; Manufacturer: Rubycon; TemperatureRange: -40C ~ 85C; Ripple Current: 1.18A; Value: 1000uF; PartId: 25559; Supplier 1: Digi-Key; Supplier Part Number 1: 1189-1742-ND; ComponentLink1Description: Datasheet; ComponentLink1URL: http://www.rubycon.co.jp/en/catalog/e_pdfs/aluminum/e_pk.pdf; ComponentLink2Description: Digi-Key Listing; ComponentLink2URL: https://www.digikey.com/product-detail/en/rubycon/35PK1000MEFC10X20/1189-1742-ND/3563765; Tolerance: 20%; Voltage: 35V; Price: 0.65; Device Package: Radial, Can, 10mm
footprint CAP AL TH D10 L5 H22
pins: 1, 2

## 35PX470MEFC10X12.5
designator C?, comment 470uF  (value not drawn)
CAP ALUM 470UF 20% 35V RADIAL; Part Number: 35PX470MEFC10X12.5; Manufacturer: Rubycon; TemperatureRange: -55C ~ 105C; Type: Polar; Ripple Current: 525mA; Value: 470uF; PartId: 24824; Supplier 1: Digi-Key; Supplier Part Number 1: 1189-1280-ND; ComponentLink1Description: Datasheet; ComponentLink1URL: http://www.rubycon.co.jp/en/catalog/e_pdfs/aluminum/e_px.pdf; ComponentLink2Description: Digi-Key Listing; ComponentLink2URL: https://www.digikey.com/product-detail/en/rubycon/35PX470MEFC10X12.5/1189-1280-ND/3134236; Tolerance: 20%; Voltage: 35V; Price: 0.46; Device Package: Radial, Can, 10mm
footprint CAP AL TH D10 L5 H14.5
pins: 1, 2

## 35PX680MEFC10X16
designator C?, comment 680uF  (value not drawn)
CAP ALUM 680UF 20% 35V RADIAL; Part Number: 35PX680MEFC10X16; Manufacturer: Rubycon; TemperatureRange: -55C ~ 105C; Type: Polar; Ripple Current: 760mA; Value: 680uF; PartId: 25243; Supplier 1: Digi-Key; Supplier Part Number 1: 1189-1282-ND; ComponentLink1Description: Datasheet; ComponentLink1URL: http://www.rubycon.co.jp/en/catalog/e_pdfs/aluminum/e_px.pdf; ComponentLink2Description: Digi-Key Listing; ComponentLink2URL: https://www.digikey.com/product-detail/en/rubycon/35PX680MEFC10X16/1189-1282-ND/3134238; Tolerance: 20%; Voltage: 35V; Price: 0.57; Device Package: Radial, Can, 10mm
footprint CAP AL TH D10 L5 H17.5
pins: 1, 2

## 35PX1000MEFC10X20
designator C?, comment 1000uF  (value not drawn)
CAP ALUM 1000UF 20% 35V RADIAL; Part Number: 35PX1000MEFC10X20; Manufacturer: Rubycon; TemperatureRange: -55C ~ 105C; Type: Polar; Ripple Current: 865mA; Value: 1000uF; PartId: 25926; Supplier 1: Digi-Key; Supplier Part Number 1: 1189-1745-ND; ComponentLink1Description: Datasheet; ComponentLink1URL: http://www.rubycon.co.jp/en/catalog/e_pdfs/aluminum/e_px.pdf; ComponentLink2Description: Digi-Key Listing; ComponentLink2URL: https://www.digikey.com/product-detail/en/rubycon/35PX1000MEFC10X20/1189-1745-ND/3563769; Tolerance: 20%; Voltage: 35V; Price: 0.73; Device Package: Radial, Can, 10mm
footprint CAP AL TH D10 L5 H22
pins: 1, 2

## 35PX2200MEFC16X25
designator C?, comment 2200uF  (value not drawn)
CAP ALUM 2200UF 20% 35V RADIAL; Part Number: 35PX2200MEFC16X25; Manufacturer: Rubycon; TemperatureRange: -55C ~ 105C; Type: Polar; Ripple Current: 1.37A; Value: 2200uF; PartId: 26659; Supplier 1: Digi-Key; Supplier Part Number 1: 1189-1276-ND; ComponentLink1Description: Datasheet; ComponentLink1URL: http://www.rubycon.co.jp/en/catalog/e_pdfs/aluminum/e_px.pdf; ComponentLink2Description: Digi-Key Listing; ComponentLink2URL: https://www.digikey.com/product-detail/en/rubycon/35PX2200MEFC16X25/1189-1276-ND/3134232; Tolerance: 20%; Voltage: 35V; Price: 1.6; Device Package: Radial, Can, 16mm
footprint CAP AL TH D16 L7.5 H26.5
pins: 1, 2

## 35RX30470M10X20
designator C?, comment 470uF  (value not drawn)
CAP ALUM 470UF 20% 35V RADIAL; Part Number: 35RX30470M10X20; Manufacturer: Rubycon; TemperatureRange: -40C ~ 130C; Type: Polar; Ripple Current: 720mA; Impedance: 73 mOhm; Value: 470uF; PartId: 25968; Supplier 1: Digi-Key; Supplier Part Number 1: 1189-2252-ND; ComponentLink1Description: Datasheet; ComponentLink1URL: http://www.rubycon.co.jp/en/catalog/e_pdfs/aluminum/e_rx30.pdf; ComponentLink2Description: Digi-Key Listing; ComponentLink2URL: https://www.digikey.com/product-detail/en/rubycon/35RX30470M10X20/1189-2252-ND/3563773; Tolerance: 20%; Voltage: 35V; Price: 0.85; Device Package: Radial, Can, 10mm
footprint CAP AL TH D10 L5 H22
pins: 1, 2

## 35YXF220MEFC10X12.5
designator C?, comment 220uF  (value not drawn)
CAP ALUM 220UF 20% 35V RADIAL; Part Number: 35YXF220MEFC10X12.5; Manufacturer: Rubycon; TemperatureRange: -40C ~ 105C; Type: Polar; Ripple Current: 406mA; Impedance: 160 mOhm; Value: 220uF; PartId: 24846; Supplier 1: Digi-Key; Supplier Part Number 1: 1189-1889-ND; ComponentLink1Description: Datasheet; ComponentLink1URL: http://www.rubycon.co.jp/en/catalog/e_pdfs/aluminum/e_yxf.pdf; ComponentLink2Description: Digi-Key Listing; ComponentLink2URL: https://www.digikey.com/product-detail/en/rubycon/35YXF220MEFC10X12.5/1189-1889-ND/3563580; Tolerance: 20%; Voltage: 35V; Price: 0.47; Device Package: Radial, Can, 10mm
footprint CAP AL TH D10 L5 H14.5
pins: 1, 2

## 35YXF470MEFC10X20
designator C?, comment 470uF  (value not drawn)
CAP ALUM 470UF 20% 35V RADIAL; Part Number: 35YXF470MEFC10X20; Manufacturer: Rubycon; TemperatureRange: -40C ~ 105C; Type: Polar; Ripple Current: 787.5mA; Impedance: 78 mOhm; Value: 470uF; PartId: 25847; Supplier 1: Digi-Key; Supplier Part Number 1: 1189-1880-ND; ComponentLink1Description: Datasheet; ComponentLink1URL: http://www.rubycon.co.jp/en/catalog/e_pdfs/aluminum/e_yxf.pdf; ComponentLink2Description: Digi-Key Listing; ComponentLink2URL: https://www.digikey.com/product-detail/en/rubycon/35YXF470MEFC10X20/1189-1880-ND/3563779; Tolerance: 20%; Voltage: 35V; Price: 0.54; Device Package: Radial, Can, 10mm
footprint CAP AL TH D10 L5 H22
pins: 1, 2

## 35YXF1000MEFC12.5X25
designator C?, comment 1000uF  (value not drawn)
CAP ALUM 1000UF 20% 35V RADIAL; Part Number: 35YXF1000MEFC12.5X25; Manufacturer: Rubycon; TemperatureRange: -40C ~ 105C; Type: Polar; Ripple Current: 1.2A; Impedance: 48 mOhm; Value: 1000uF; PartId: 23864; Supplier 1: Digi-Key; Supplier Part Number 1: 1189-1871-ND; ComponentLink1Description: Datasheet; ComponentLink1URL: http://www.rubycon.co.jp/en/catalog/e_pdfs/aluminum/e_yxf.pdf; ComponentLink2Description: Digi-Key Listing; ComponentLink2URL: https://www.digikey.com/product-detail/en/rubycon/35YXF1000MEFC12.5X25/1189-1871-ND/3564114; Tolerance: 20%; Voltage: 35V; Price: 0.78; Device Package: Radial, Can, 12.5mm
footprint CAP AL TH D12.5 L5 H27
pins: 1, 2

## 35YXF2200MEFC16X31.5
designator C?, comment 2200uF  (value not drawn)
CAP ALUM 2200UF 20% 35V RADIAL; Part Number: 35YXF2200MEFC16X31.5; Manufacturer: Rubycon; TemperatureRange: -40C ~ 105C; Type: Polar; Ripple Current: 1.6A; Impedance: 29 mOhm; Value: 2200uF; PartId: 27140; Supplier 1: Digi-Key; Supplier Part Number 1: 1189-2253-ND; ComponentLink1Description: Datasheet; ComponentLink1URL: http://www.rubycon.co.jp/en/catalog/e_pdfs/aluminum/e_yxf.pdf; ComponentLink2Description: Digi-Key Listing; ComponentLink2URL: https://www.digikey.com/product-detail/en/rubycon/35YXF2200MEFC16X31.5/1189-2253-ND/3564530; Tolerance: 20%; Voltage: 35V; Price: 1.81; Device Package: Radial, Can, 16mm
footprint CAP AL TH D16 L7.5 H33.5
pins: 1, 2

## 35YXG330MEFC10X16
designator C?, comment 330uF  (value not drawn)
CAP ALUM 330UF 20% 35V RADIAL; Part Number: 35YXG330MEFC10X16; Manufacturer: Rubycon; TemperatureRange: -40C ~ 105C; Type: Polar; Ripple Current: 665.5mA @ 120Hz; Impedance: 60 mOhm; Value: 330uF; PartId: 25150; Supplier 1: Digi-Key; Supplier Part Number 1: 1189-1291-ND; ComponentLink1Description: Datasheet; ComponentLink1URL: http://www.rubycon.co.jp/en/catalog/e_pdfs/aluminum/e_yxg.pdf; ComponentLink2Description: Digi-Key Listing; ComponentLink2URL: https://www.digikey.com/product-detail/en/rubycon/35YXG330MEFC10X16/1189-1291-ND/3134247; Tolerance: 20%; Voltage: 35V; Price: 0.42; Device Package: Radial, Can, 10mm
footprint CAP AL TH D10 L5 H17.5
pins: 1, 2

## 35YXG470MEFC10X20
designator C?, comment 470uF  (value not drawn)
CAP ALUM 470UF 20% 35V RADIAL; Part Number: 35YXG470MEFC10X20; Manufacturer: Rubycon; TemperatureRange: -40C ~ 105C; Type: Polar; Ripple Current: 770mA @ 120Hz; Impedance: 46 mOhm; Value: 470uF; PartId: 25865; Supplier 1: Digi-Key; Supplier Part Number 1: 1189-2258-ND; ComponentLink1Description: Datasheet; ComponentLink1URL: http://www.rubycon.co.jp/en/catalog/e_pdfs/aluminum/e_yxg.pdf; ComponentLink2Description: Digi-Key Listing; ComponentLink2URL: https://www.digikey.com/product-detail/en/rubycon/35YXG470MEFC10X20/1189-2258-ND/3563791; Tolerance: 20%; Voltage: 35V; Price: 0.62; Device Package: Radial, Can, 10mm
footprint CAP AL TH D10 L5 H22
pins: 1, 2

## 35YXG1000MEFC12.5X25
designator C?, comment 1000uF  (value not drawn)
CAP ALUM 1000UF 20% 35V RADIAL; Part Number: 35YXG1000MEFC12.5X25; Manufacturer: Rubycon; TemperatureRange: -40C ~ 105C; Type: Polar; Ripple Current: 1.338A @ 120Hz; Impedance: 27 mOhm; Value: 1000uF; PartId: 23968; Supplier 1: Digi-Key; Supplier Part Number 1: 1189-1746-ND; ComponentLink1Description: Datasheet; ComponentLink1URL: http://www.rubycon.co.jp/en/catalog/e_pdfs/aluminum/e_yxg.pdf; ComponentLink2Description: Digi-Key Listing; ComponentLink2URL: https://www.digikey.com/product-detail/en/rubycon/35YXG1000MEFC12.5X25/1189-1746-ND/3564122; Tolerance: 20%; Voltage: 35V; Price: 1; Device Package: Radial, Can, 12.5mm
footprint CAP AL TH D12.5 L5 H27
pins: 1, 2

## 35YXH220MEFC10X12.5
designator C?, comment 220uF  (value not drawn)
CAP ALUM 220UF 20% 35V RADIAL; Part Number: 35YXH220MEFC10X12.5; Manufacturer: Rubycon; TemperatureRange: -40C ~ 105C; Ripple Current: 432.5mA; Impedance: 80 mOhm; Value: 220uF; PartId: 24988; Supplier 1: Digi-Key; Supplier Part Number 1: 1189-2259-ND; ComponentLink1Description: Datasheet; ComponentLink1URL: http://www.rubycon.co.jp/en/catalog/e_pdfs/aluminum/e_yxh.pdf; ComponentLink2Description: Digi-Key Listing; ComponentLink2URL: https://www.digikey.com/product-detail/en/rubycon/35YXH220MEFC10X12.5/1189-2259-ND/3563594; Tolerance: 20%; Voltage: 35V; Price: 0.55; Device Package: Radial, Can, 10mm
footprint CAP AL TH D10 L5 H14.5
pins: 1, 2

## 35YXJ470MCA10X16
designator C?, comment 470uF  (value not drawn)
CAP ALUM 470UF 20% 35V RADIAL; Part Number: 35YXJ470MCA10X16; Manufacturer: Rubycon; TemperatureRange: -40C ~ 105C; Type: Polar; Ripple Current: 1.21A; Impedance: 62 mOhm; Value: 470uF; PartId: 25253; Supplier 1: Digi-Key; Supplier Part Number 1: 1189-1299-ND; ComponentLink1Description: Datasheet; ComponentLink1URL: http://www.rubycon.co.jp/en/catalog/e_pdfs/aluminum/e_yxj.pdf; ComponentLink2Description: Digi-Key Listing; ComponentLink2URL: https://www.digikey.com/product-detail/en/rubycon/35YXJ470MCA10X16/1189-1299-ND/3134255; Tolerance: 20%; Voltage: 35V; Price: 0.58; Device Package: Radial, Can, 10mm
footprint CAP AL TH D10 L5 H17.5
pins: 1, 2

## 35YXJ1000M12.5X20
designator C?, comment 1000uF  (value not drawn)
CAP ALUM 1000UF 20% 35V RADIAL; Part Number: 35YXJ1000M12.5X20; Manufacturer: Rubycon; TemperatureRange: -40C ~ 105C; Type: Polar; Ripple Current: 1.9A; Impedance: 41 mOhm; Value: 1000uF; PartId: 23415; Supplier 1: Digi-Key; Supplier Part Number 1: 1189-1295-ND; ComponentLink1Description: Datasheet; ComponentLink1URL: http://www.rubycon.co.jp/en/catalog/e_pdfs/aluminum/e_yxj.pdf; ComponentLink2Description: Digi-Key Listing; ComponentLink2URL: https://www.digikey.com/product-detail/en/rubycon/35YXJ1000M12.5X20/1189-1295-ND/3134251; Tolerance: 20%; Voltage: 35V; Price: 1; Device Package: Radial, Can, 12.5mm
footprint CAP AL TH D12.5 L5 H22
pins: 1, 2

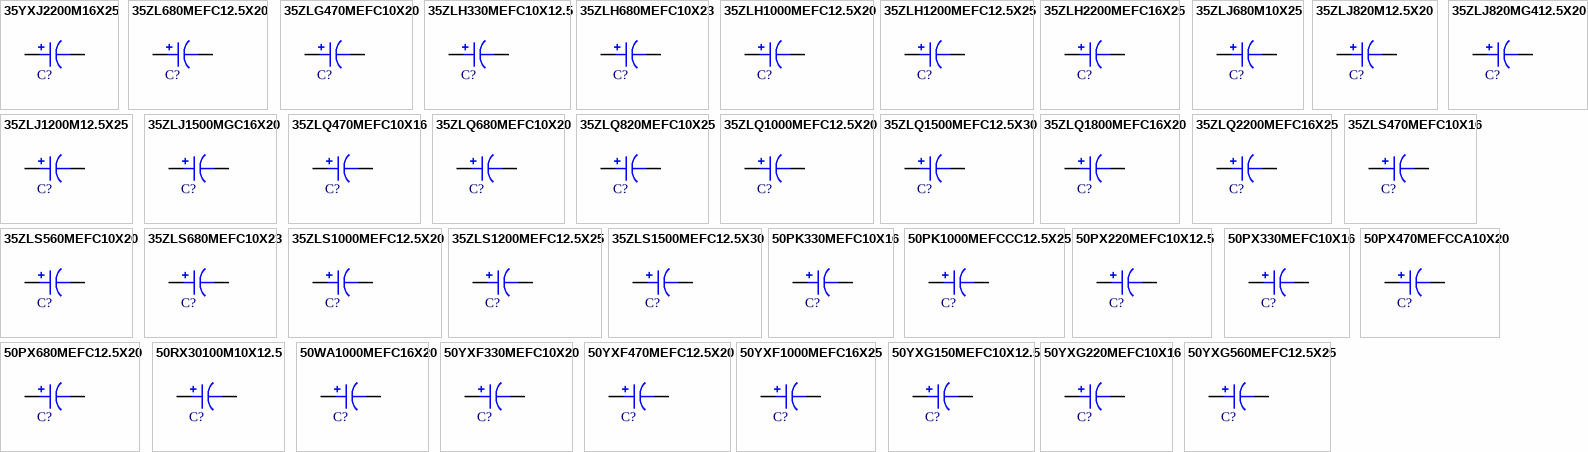
[diagram p5: symbols 35YXJ2200M16X25 to 50YXG560MEFC12.5X25]

## 35YXJ2200M16X25
designator C?, comment 2200uF  (value not drawn)
CAP ALUM 2200UF 20% 35V RADIAL; Part Number: 35YXJ2200M16X25; Manufacturer: Rubycon; TemperatureRange: -40C ~ 105C; Type: Polar; Ripple Current: 2.93A; Impedance: 21 mOhm; Value: 2200uF; PartId: 26853; Supplier 1: Digi-Key; Supplier Part Number 1: 1189-1296-ND; ComponentLink1Description: Datasheet; ComponentLink1URL: http://www.rubycon.co.jp/en/catalog/e_pdfs/aluminum/e_yxj.pdf; ComponentLink2Description: Digi-Key Listing; ComponentLink2URL: https://www.digikey.com/product-detail/en/rubycon/35YXJ2200M16X25/1189-1296-ND/3134252; Tolerance: 20%; Voltage: 35V; Price: 1.1; Device Package: Radial, Can, 16mm
footprint CAP AL TH D16 L7.5 H27
pins: 1, 2

## 35ZL680MEFC12.5X20
designator C?, comment 680uF  (value not drawn)
CAP ALUM 680UF 20% 35V RADIAL; Part Number: 35ZL680MEFC12.5X20; Manufacturer: Rubycon; TemperatureRange: -40C ~ 105C; Type: Polar; Ripple Current: 2.36A; Impedance: 21 mOhm; Value: 680uF; PartId: 23356; Supplier 1: Digi-Key; Supplier Part Number 1: 35ZL680MEFC12.5X20-ND; ComponentLink1Description: Datasheet; ComponentLink1URL: http://www.rubycon.co.jp/en/catalog/e_pdfs/aluminum/e_zl.pdf; ComponentLink2Description: Digi-Key Listing; ComponentLink2URL: https://www.digikey.com/product-detail/en/rubycon/35ZL680MEFC12.5X20/35ZL680MEFC12.5X20-ND/3564048; Tolerance: 20%; Voltage: 35V; Price: 0.85; Device Package: Radial, Can, 12.5mm
footprint CAP AL TH D12.5 L5 H22
pins: 1, 2

## 35ZLG470MEFC10X20
designator C?, comment 470uF  (value not drawn)
CAP ALUM 470UF 20% 35V RADIAL; Part Number: 35ZLG470MEFC10X20; Manufacturer: Rubycon; TemperatureRange: -40C ~ 105C; Ripple Current: 2.18A; Impedance: 14 mOhm; Value: 470uF; PartId: 25940; Supplier 1: Digi-Key; Supplier Part Number 1: 1189-2264-ND; ComponentLink1Description: Datasheet; ComponentLink1URL: http://www.rubycon.co.jp/en/catalog/e_pdfs/aluminum/e_zlg.pdf; ComponentLink2Description: Digi-Key Listing; ComponentLink2URL: https://www.digikey.com/product-detail/en/rubycon/35ZLG470MEFC10X20/1189-2264-ND/3563812; Tolerance: 20%; Voltage: 35V; Price: 0.74; Device Package: Radial, Can, 10mm
footprint CAP AL TH D10 L5 H22
pins: 1, 2